# Altium footprint library Footprint_MountingHoles.PcbLib: 1 footprints
Each footprint in its own frame and in the unit in brackets; x right, y up, seen from the top. Pads: shape width x height; smd on the part's side, far side on the other; paste and mask are expansions set on the pad; w line width, h text height; cw(c..) or ccw(c..) is an arc to the next point about the centre after c.
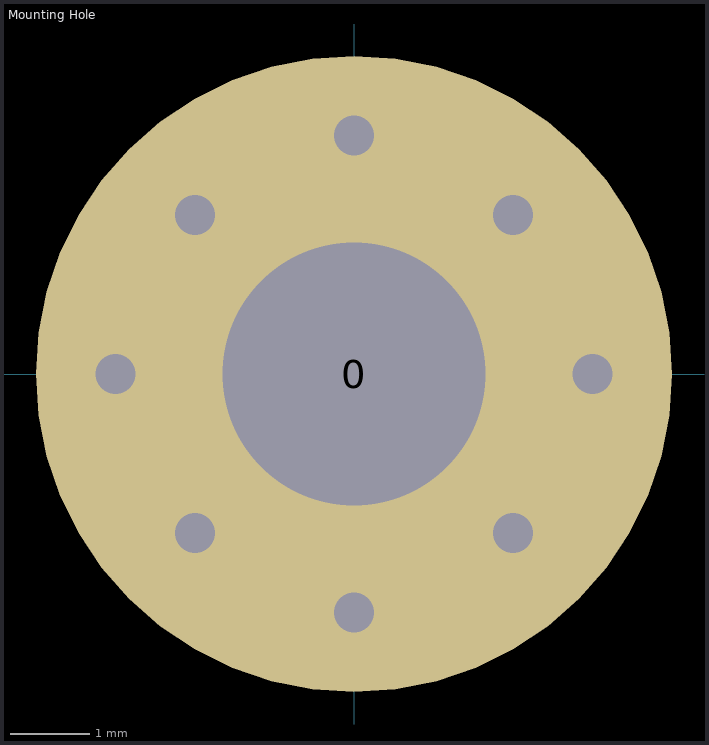
[diagram p0: the footprint, top view; thin cyan lines are the x and y axes]

## Mounting Hole [mm]
pads (1):
  round 8 hole 3.3: 0(0,0)
via 0,3 diameter 0.8 hole 0.5
via 0,-3 diameter 0.8 hole 0.5
via 3,0 diameter 0.8 hole 0.5
via -3,0 diameter 0.8 hole 0.5
via -2,2 diameter 0.8 hole 0.5
via 2,2 diameter 0.8 hole 0.5
via 2,-2 diameter 0.8 hole 0.5
via -2,-2 diameter 0.8 hole 0.5